# Altium footprint library NSC Audio.PcbLib: 145 footprints (part 10 of 10)
Each footprint in its own frame and in the unit in brackets; x right, y up, seen from the top. Pads: shape width x height; smd on the part's side, far side on the other; paste and mask are expansions set on the pad; w line width, h text height; cw(c..) or ccw(c..) is an arc to the next point about the centre after c.
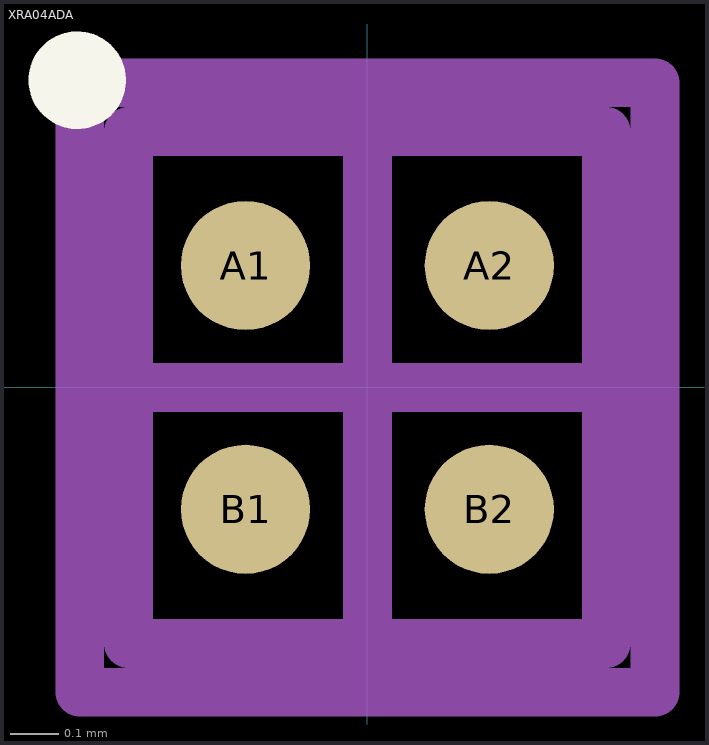
[diagram p9: the footprint, top view; thin cyan lines are the x and y axes]

## XRA04ADA [mm] "Micro SMD, 4-Leads, Body 1.05x0.98mm, Pitch 0.5mm, NSC Recommended"
height 0.33
pads (4):
  round 0.265 smd paste-0.132 mask+0.05: A1(-0.25,0.25) A2(0.25,0.25) B1(-0.25,-0.25) B2(0.25,-0.25)
Top Overlay:
  circle w0.1: c-0.595,0.63 r0.05
Top Paste:
  circle w0.05: c0.2,-0.2 r0.025
  circle w0.05: c0.35,-0.35 r0.025
  circle w0.05: c0.35,-0.2 r0.025
  circle w0.05: c0.2,-0.35 r0.025
  circle w0.05: c-0.35,-0.2 r0.025
  circle w0.05: c-0.2,-0.35 r0.025
  circle w0.05: c-0.2,-0.2 r0.025
  circle w0.05: c-0.35,-0.35 r0.025
  circle w0.05: c0.2,0.35 r0.025
  circle w0.05: c0.35,0.2 r0.025
  circle w0.05: c0.35,0.35 r0.025
  circle w0.05: c0.2,0.2 r0.025
  circle w0.05: c-0.35,0.35 r0.025
  circle w0.05: c-0.2,0.2 r0.025
  circle w0.05: c-0.2,0.35 r0.025
  circle w0.05: c-0.35,0.2 r0.025
  region: 0.35,-0.35 0.2,-0.35 0.2,-0.4 0.35,-0.4
  region: 0.35,-0.2 0.35,-0.35 0.4,-0.35 0.4,-0.2
  rectangle: 0.2,-0.2 0.35,-0.15
  region: 0.2,-0.35 0.2,-0.2 0.15,-0.2 0.15,-0.35
  region: 0.2,-0.2 0.2,-0.35 0.35,-0.35 0.35,-0.2
  region: -0.2,-0.35 -0.35,-0.35 -0.35,-0.4 -0.2,-0.4
  region: -0.2,-0.2 -0.2,-0.35 -0.15,-0.35 -0.15,-0.2
  rectangle: -0.35,-0.2 -0.2,-0.15
  region: -0.35,-0.35 -0.35,-0.2 -0.4,-0.2 -0.4,-0.35
  region: -0.35,-0.2 -0.35,-0.35 -0.2,-0.35 -0.2,-0.2
  region: 0.35,0.2 0.2,0.2 0.2,0.15 0.35,0.15
  region: 0.35,0.35 0.35,0.2 0.4,0.2 0.4,0.35
  rectangle: 0.2,0.35 0.35,0.4
  region: 0.2,0.2 0.2,0.35 0.15,0.35 0.15,0.2
  region: 0.2,0.35 0.2,0.2 0.35,0.2 0.35,0.35
  region: -0.2,0.2 -0.35,0.2 -0.35,0.15 -0.2,0.15
  region: -0.2,0.35 -0.2,0.2 -0.15,0.2 -0.15,0.35
  rectangle: -0.35,0.35 -0.2,0.4
  region: -0.35,0.2 -0.35,0.35 -0.4,0.35 -0.4,0.2
  region: -0.35,0.35 -0.35,0.2 -0.2,0.2 -0.2,0.35
Mechanical 13:
  lines w0.1: -0.49,-0.525 0.49,-0.525 0.49,0.525 -0.49,0.525 -0.49,-0.525
Mechanical 15:
  lines w0.1: -0.5,0 0.5,0 ; 0,-0.5 0,0.5 ; -0.59,-0.625 0.59,-0.625 0.59,0.625 -0.59,0.625 -0.59,-0.625
3D body: height 0.33, standoff 0, extent -0.49,-0.525 0.49,0.525